# EAGLE library part NB3L553 (library NB3L553)
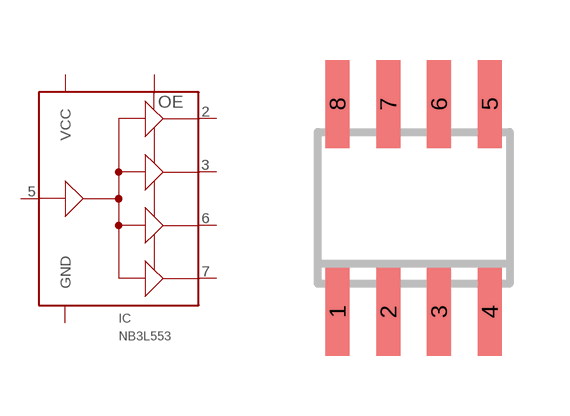
[diagram p0: symbol with the pads of SO8; footprint SO8]

Designator prefix IC

## NB3L553  [SO8]
1  VCC  pas
2  OUT1  pas
3  OUT2  pas
4  GND  pas
5  IN  pas
6  OUT3  pas
7  OUT4  pas
8  OE  pas

## Footprint SO8 (pad centres in mm)
smd 0.6 x 2.2: 1 -1.905,-2.6; 2 -0.635,-2.6; 3 0.635,-2.6; 4 1.905,-2.6; 5 1.905,2.6; 6 0.635,2.6; 7 -0.635,2.6; 8 -1.905,2.6